# Altium schematic symbol library Header.SchLib: 1 symbol
Pins are listed as number, name and electrical type; pins without a type are passive.

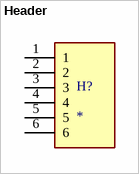
[diagram p0: symbol Header]

## Header
designator H?
pins: 1, 2, 3, 4, 5, 6